# Altium footprint library PcbLib1.PcbLib: 3 footprints
Each footprint in its own frame and in the unit in brackets; x right, y up, seen from the top. Pads: shape width x height; smd on the part's side, far side on the other; paste and mask are expansions set on the pad; w line width, h text height; cw(c..) or ccw(c..) is an arc to the next point about the centre after c.
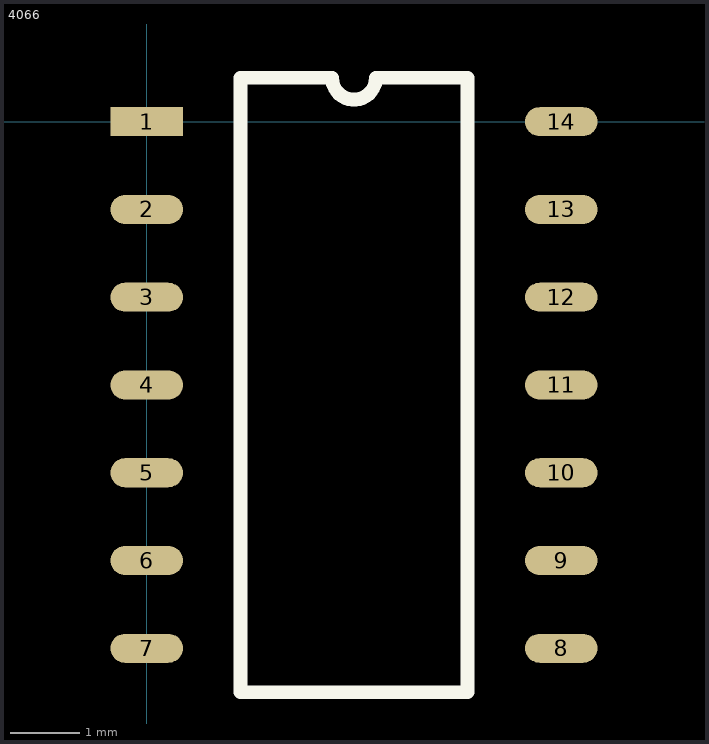
[diagram p0: the footprints below, top view; thin cyan lines are the x and y axes]

## 4066 [mm]
pads (14):
  rect 1.05x0.42 smd: 1(0,0)
  oval 1.05x0.42 smd: 2(0,-1.27) 3(0,-2.54) 4(0,-3.81) 5(0,-5.08) 6(0,-6.35) 7(0,-7.62) 8(6,-7.62) 9(6,-6.35) 10(6,-5.08) 11(6,-3.81) 12(6,-2.54) 13(6,-1.27) 14(6,0)
Top Overlay:
  lines w0.2: 1.36,-8.255 4.64,-8.255 4.64,0.635 3.317,0.635 cw(c3,0.635) 2.682,0.635 1.36,0.635 1.36,-8.255

## PCBComponent_1 [mm]

## SOP14 [mm]